# Altium schematic symbol library LED.SchLib: 1 symbol
Pins are listed as number, name and electrical type; pins without a type are passive.

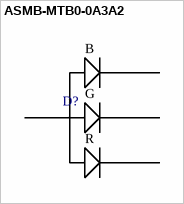
[diagram p0: symbol ASMB-MTB0-0A3A2]

## ASMB-MTB0-0A3A2
designator D?  (value not drawn)
RGB LED
footprint ASMB-MTB0-0A3A2
pins: 1 CA, 2 CA, 3 CA, 4 CA
text: B; G; R